# EAGLE library part BQ24210DQCT (library WISE)
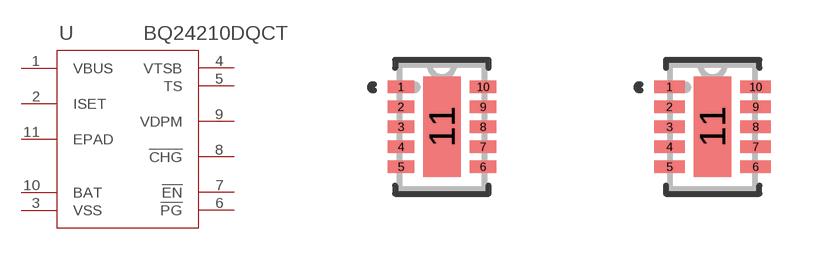
[diagram p6: symbol with the pads of DQC10_P84X2P4; footprints DQC10_P84X2P4, DQC10_P84X2P4-M]

Designator prefix U

## BQ24210DQCT (MANUFACTURER_PART_NUMBER: BQ24210DQCT; VENDOR: Vendor)  [DQC10_P84X2P4]
1  VBUS
2  ISET  in
3  VSS  pwr
4  VTSB  out
5  TS  in
6  !PG  out
7  !EN  in
8  !CHG  out
9  VDPM  in
10  BAT
11  EPAD  pwr

## BQ24210DQCTDQC10_P84X2P4-M (MANUFACTURER_PART_NUMBER: BQ24210DQCT; VENDOR: Vendor)  [DQC10_P84X2P4-M]
Pads as for DQC10_P84X2P4

## BQ24210DQCTDQC10_P84X2P4-L (MANUFACTURER_PART_NUMBER: BQ24210DQCT; VENDOR: Vendor)  [DQC10_P84X2P4-L]
Pads as for DQC10_P84X2P4

## Footprint DQC10_P84X2P4 (pad centres in mm)
smd 0.66 x 0.305: 1 -1.029,1; 2 -1.029,0.5; 3 -1.029,0; 4 -1.029,-0.5; 5 -1.029,-1; 6 1.029,-1; 7 1.029,-0.5; 8 1.029,0; 9 1.029,0.5; 10 1.029,1
smd 0.94 x 2.515: 11 0,0

## Footprint DQC10_P84X2P4-M (pad centres in mm)
smd 0.762 x 0.305: 1 -1.079,1; 2 -1.079,0.5; 3 -1.079,0; 4 -1.079,-0.5; 5 -1.079,-1; 6 1.079,-1; 7 1.079,-0.5; 8 1.079,0; 9 1.079,0.5; 10 1.079,1
smd 0.94 x 2.515: 11 0,0

## Footprint DQC10_P84X2P4-L (pad centres in mm)
smd 0.559 x 0.305: 1 -0.978,1; 2 -0.978,0.5; 3 -0.978,0; 4 -0.978,-0.5; 5 -0.978,-1; 6 0.978,-1; 7 0.978,-0.5; 8 0.978,0; 9 0.978,0.5; 10 0.978,1
smd 0.94 x 2.515: 11 0,0